# EAGLE library part OPENLOG (library fablab_uchile)
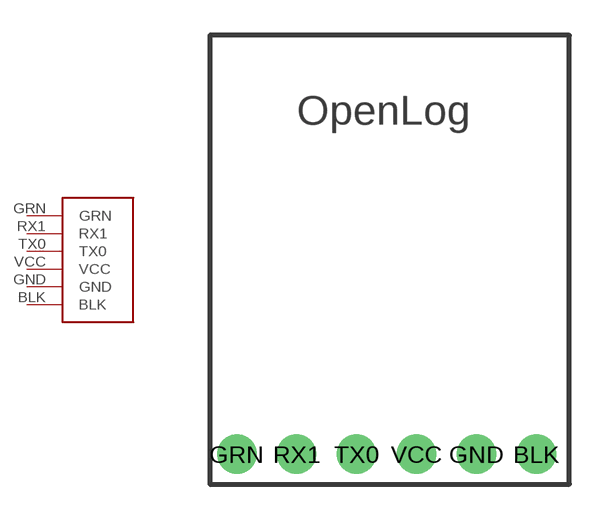
[diagram p8: symbol with the pads of OPENLOG; footprint OPENLOG]

Designator prefix -

## OPENLOG  [OPENLOG]
BLK  BLK
GND  GND
GRN  GRN
RX1  RX1
TX0  TX0
VCC  VCC

## Footprint OPENLOG (pad centres in mm)
drill 0.6 pad 1.676: BLK 13.97,1.27; GND 11.43,1.27; GRN 1.27,1.27; RX1 3.81,1.27; TX0 6.35,1.27; VCC 8.89,1.27